# EAGLE library part AD210AN (library ad210an)
AD210AN , Precision, Wide Bandwidth 3-Port Isolation Amplifier Based on source: http://www.analog.com/UploadedFiles/Data_Sheets/AD210.pdf Created by Pawel Matyaszczyk - mool1981 at gmail.com
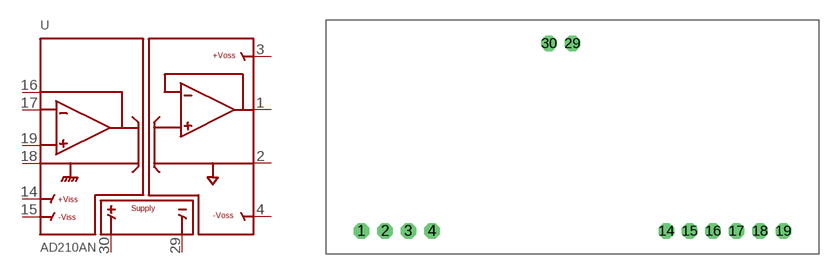
[diagram p0: symbol with the pads of AD210; footprint AD210]

Designator prefix -

## AD210AN  [AD210]
1  VO  out
2  OCOM  pwr
3  +VOSS  pwr
4  -VOSS  pwr
14  +VISS  pwr
15  -VISS  pwr
16  FB  out
17  -IN  in
18  ICOM  pwr
19  +IN  in
29  PWR_COM  pwr
30  PWR  pwr

## Footprint AD210 (pad centres in mm)
AD210 Footprint Created by Pawel Matyaszczyk - mool1981 at gmail.com
drill 0.8 pad 1.676 octagon: 1 0,0; 2 2.54,0; 3 5.08,0; 4 7.62,0; 14 33.02,0; 15 35.56,0; 16 38.1,0; 17 40.64,0; 18 43.18,0; 19 45.72,0; 29 22.86,20.32; 30 20.32,20.32